# Altium footprint library pot.PcbLib: 1 footprints
Each footprint in its own frame and in the unit in brackets; x right, y up, seen from the top. Pads: shape width x height; smd on the part's side, far side on the other; paste and mask are expansions set on the pad; w line width, h text height; cw(c..) or ccw(c..) is an arc to the next point about the centre after c.
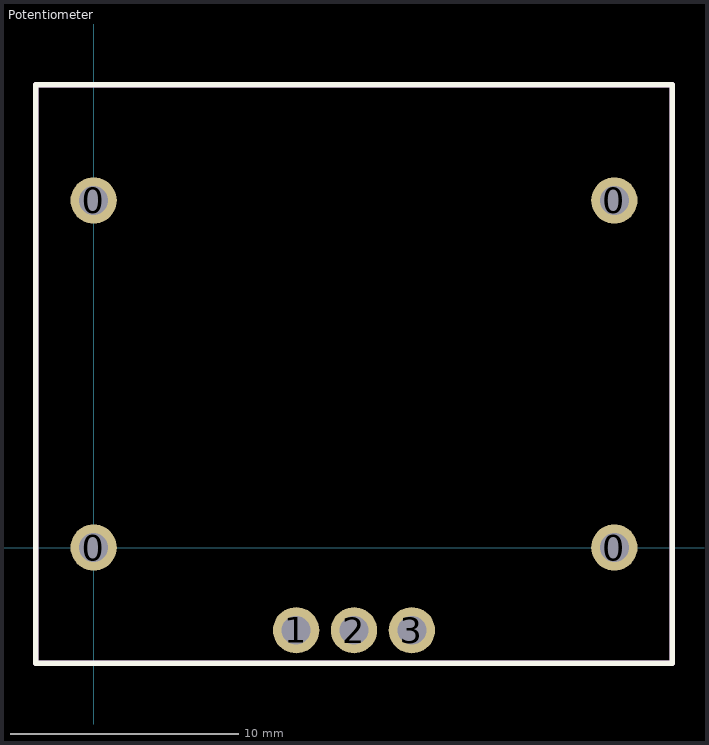
[diagram p0: the footprint, top view; thin cyan lines are the x and y axes]

## Potentiometer [mil] "Potencjometr"
pads (7):
  round 80 hole 50: 0(0,0) 0(0,600) 0(900,0) 0(900,600) 1(350,-143) 2(450,-143) 3(550,-143)
Top Overlay:
  lines w10: -100,-200 1000,-200 1000,800 -100,800 -100,-200
Mechanical 1:
  lines w10: -100,-200 1000,-200 1000,800 -100,800 -100,-200
3D body: height 320, standoff 0, extent 0,600 900,800
3D body: height 320, standoff 0, extent 0,-200 900,0
3D body: height 1080, standoff 580, extent 250.01,100.01 650.01,500.01
3D body: height 330, standoff 0, extent -50,0 950,600
3D body: height 580, standoff 330, extent 200,50.07 700,549.93